# Altium schematic symbol library TVS Arrays.SchLib: 2 symbols
Pins are listed as number, name and electrical type; pins without a type are passive.

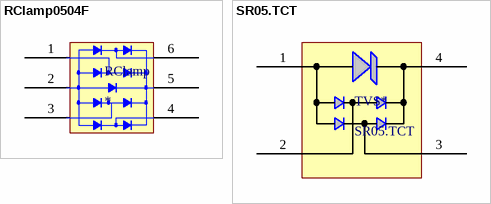
[diagram p0: symbols RClamp0504F to SR05.TCT]

## RClamp0504F
designator RClamp
Low Capacitance TVS Array; Digikey Part Number: RCLAMP0504FCT-ND
footprint SC70-6L
pins: 1, 2, 3, 4, 5, 6

## SR05.TCT
designator TVS*
IC TVS ARRAY 2-LINE 5V SOT-143
footprint SOT143 (SOT-143; 4 Leads; Body 3 x 2.6 mm, inc. leads (LxW max))
pins: 1, 2, 3, 4